# Altium footprint library logo.PcbLib: 1 footprints
Each footprint in its own frame and in the unit in brackets; x right, y up, seen from the top. Pads: shape width x height; smd on the part's side, far side on the other; paste and mask are expansions set on the pad; w line width, h text height; cw(c..) or ccw(c..) is an arc to the next point about the centre after c.
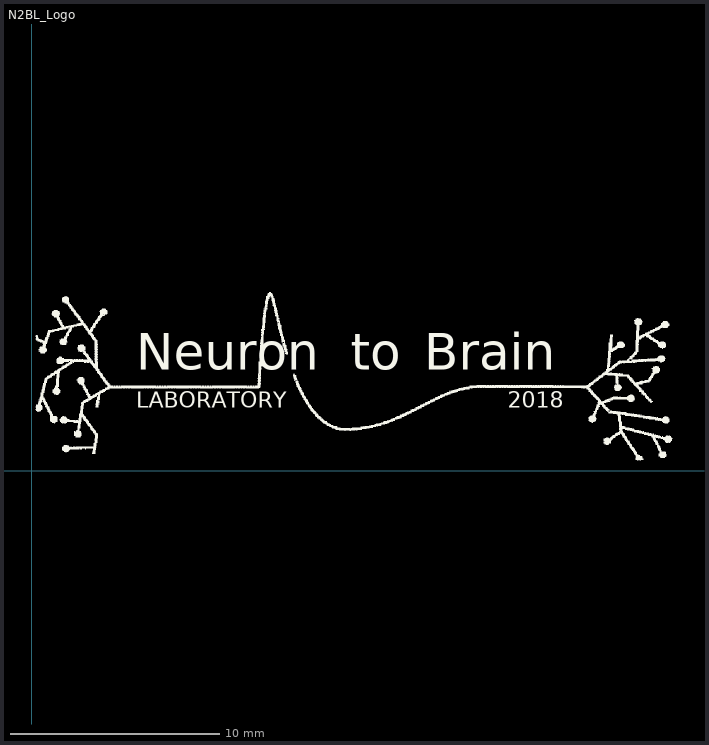
[diagram p0: the footprint, top view; thin cyan lines are the x and y axes]

## N2BL_Logo [mm] "Example template footprint"
height 1.5
Top Overlay:
  drawing of 2 lines, arcs and shapes, not listed
  text "Neuron" at 5,4.25 h3
  text "Brain" at 18.75,4.25 h3
  text "to" at 15.25,4.25 h3
  text "LABORATORY" at 5,2.75 h1.3
  text "2018" at 22.75,2.75 h1.3